# Altium footprint library RS485_PCB_Lib.PcbLib: 30 footprints (part 2 of 2)
Each footprint in its own frame and in the unit in brackets; x right, y up, seen from the top. Pads: shape width x height; smd on the part's side, far side on the other; paste and mask are expansions set on the pad; w line width, h text height; cw(c..) or ccw(c..) is an arc to the next point about the centre after c.
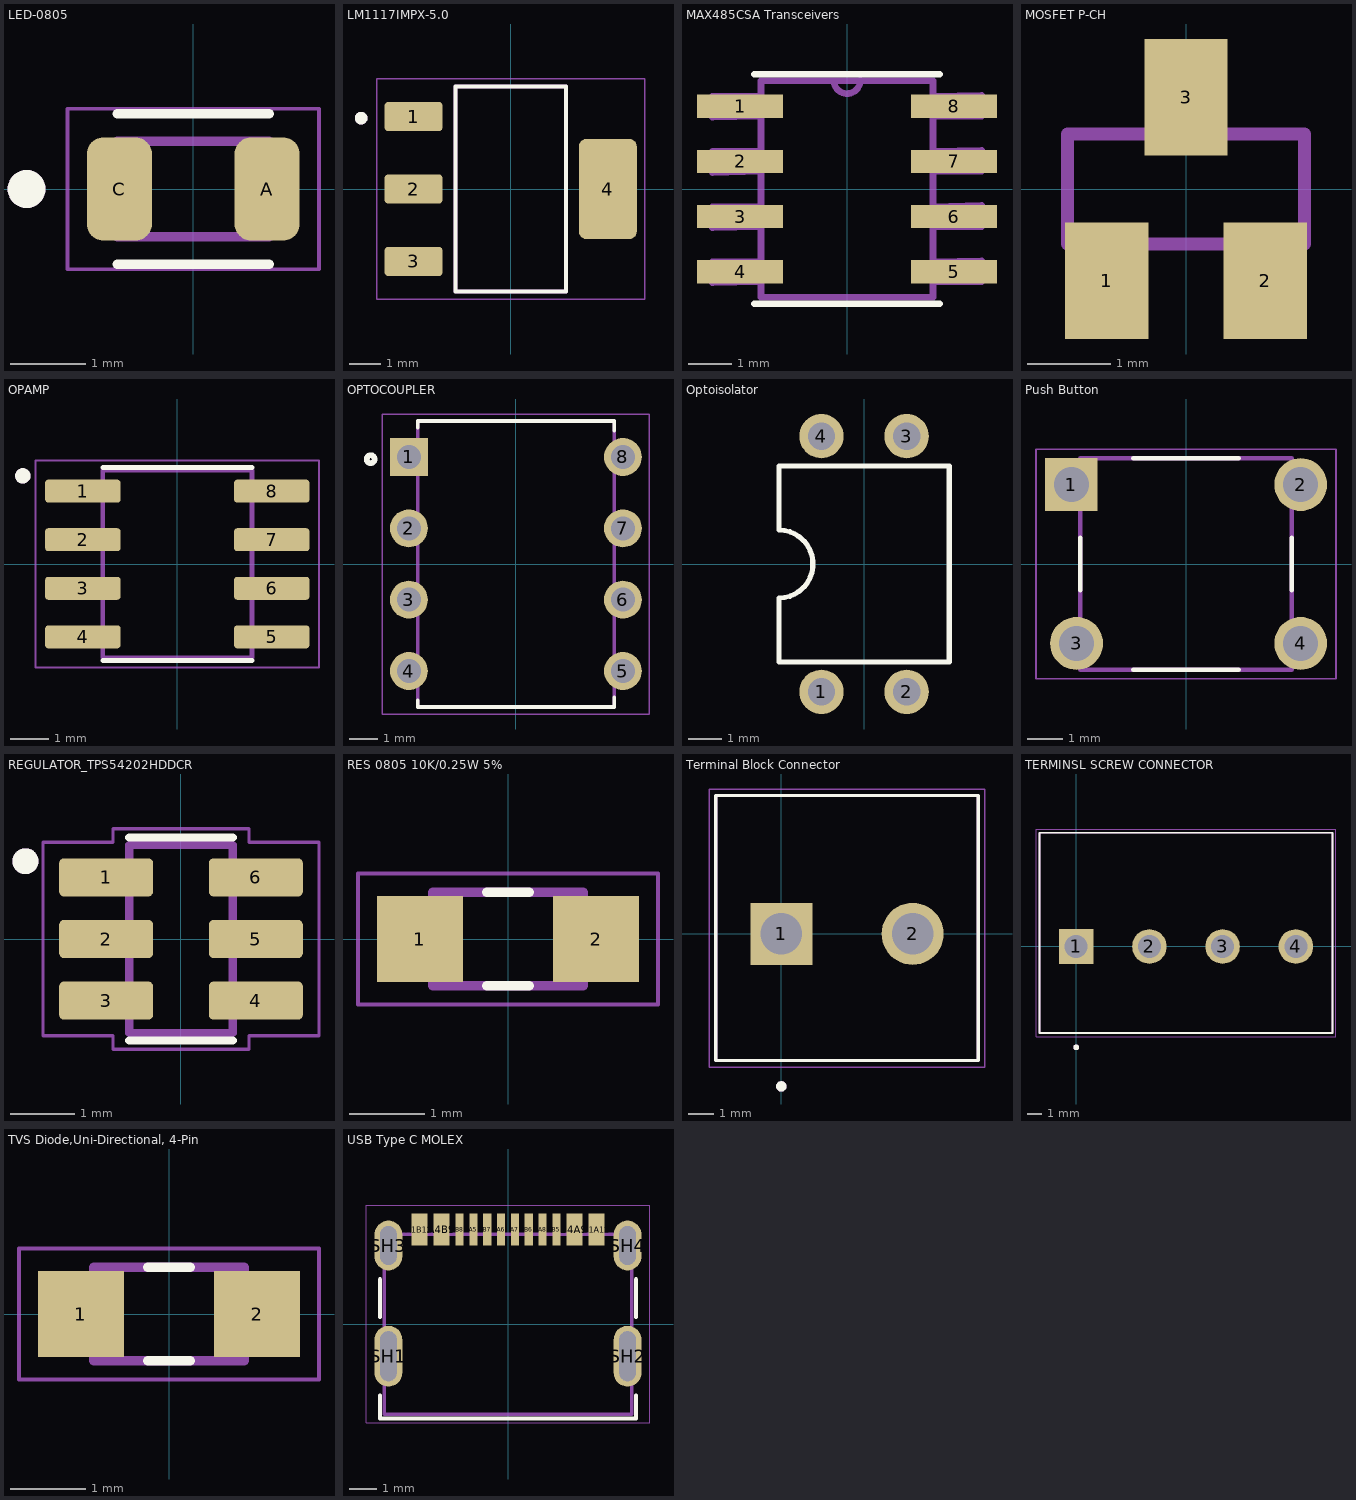
[diagram p1: the footprints below, top view; thin cyan lines are the x and y axes]

## LED-0805 [mm] "Red 640nm LED Indication - Discrete 1.85V 0805 (2012 Metric)"
pads (2):
  rrect50% 0.86x1.36 smd: A(0.975,0) C(-0.975,0)
Top Overlay:
  circle w0.3: c-2.2,0 r0.1
  lines w0.127: -1,-0.995 1,-0.995 ; -1,0.995 1,0.995
Mechanical 13:
  circle w0.3: c-2.2,0 r0.1
  lines w0.127: -1,-0.63 -1,0.63 1,0.63 1,-0.63 -1,-0.63
Mechanical 15:
  lines w0.05: -1.66,-1.059 -1.66,1.059 1.66,1.059 1.66,-1.059 -1.66,-1.059
3D body "step_temp.STEP": height 0.75, standoff 0, extent -1,-0.625 1,0.625

## LM1117IMPX-5.0 [mm]
height 1.8
pads (4):
  rrect25% 1.84x0.93 smd: 1(-3.085,2.3) 2(-3.085,0) 3(-3.085,-2.3)
  rrect25% 1.84x3.19 smd: 4(3.085,0)
Top Overlay:
  circle w0.2: c-4.75,2.25 r0.1
  lines w0.127: -1.75,-3.25 -1.75,3.25 1.75,3.25 1.75,-3.25 -1.75,-3.25
Mechanical 13:
  circle w0.2: c-4.75,2.25 r0.1
  lines w0.127: -1.75,-3.25 -1.75,3.25 1.75,3.25 1.75,-3.25 -1.75,-3.25
Mechanical 15:
  lines w0.05: -4.255,-3.5 4.255,-3.5 4.255,3.5 -4.255,3.5 -4.255,-3.5
3D body "step_temp.STEP": height 1.8, standoff 0, extent -3.499,-3.25 3.499,3.25

## MAX485CSA Transceivers [mil] "MAX485CSA-RS-485/RS-422 Transceivers, SOIC-8"
pads (8):
  rect 78x21 smd: 1(-97,75) 2(-97,25) 3(-97,-25) 4(-97,-75) 5(97,-75) 6(97,-25) 7(97,25) 8(97,75)
Top Overlay:
  lines w6: -84,-104 84,-104 ; -84,104 84,104
Mechanical 13:
  lines w6: -12,98.08 ccw(c0,98.5) 12,98.92 ; -122,-85 -78,-84 -78,-66 -122,-66 -122,-85 ; -122,-35 -78,-34 -78,-16 -122,-16 -122,-35 ; -122,15 -78,16 -78,34 -122,34 -122,15 ; -122,65 -78,66 -78,84 -122,84 -122,65 ; -78,-98 -78,98 -12,98 78,98 78,-98 -78,-98 ; 78,-84 122,-84 122,-65 78,-66 78,-84 ; 78,-34 122,-34 122,-15 78,-16 78,-34 ; 78,16 122,16 122,35 78,34 78,16 ; 78,66 122,66 122,85 78,84 78,66
3D body "step_temp.STEP": height 68.9, standoff 0, extent -118.11,-96.46 118.11,96.46

## MOSFET P-CH [mm] "MOSFET P-CH 20V 2.2A SOT23-3"
pads (3):
  rect 1x1.4 smd: 1(-0.95,-1.1) 2(0.95,-1.1) 3(0,1.1)
Mechanical 13:
  region: -0.711,-1.295 -1.168,-1.295 -1.168,-0.711 -0.711,-0.711
  region: 1.168,-1.295 0.711,-1.295 0.711,-0.711 1.168,-0.711
  region: 0.229,0.711 -0.229,0.711 -0.229,1.295 0.229,1.295
  lines w0.152: -1.422,-0.66 -1.422,0.66 1.422,0.66 1.422,-0.66 -1.422,-0.66
3D body "step_temp.STEP": height 1.25, standoff 0, extent -1.46,-1.312 1.46,1.058

## OPAMP [mm] "LMV342MA,Dual, 5.5-V, 1-MHz, high output current (75-mA) op amp,SOIC-8"
pads (8):
  rrect25% 1.97x0.6 smd: 1(-2.47,1.905) 2(-2.47,0.635) 3(-2.47,-0.635) 4(-2.47,-1.905) 5(2.47,-1.905) 6(2.47,-0.635) 7(2.47,0.635) 8(2.47,1.905)
Top Overlay:
  circle w0.2: c-4.04,2.305 r0.1
  lines w0.127: -1.95,-2.525 1.95,-2.525 ; -1.95,2.525 1.95,2.525
Mechanical 13:
  circle w0.2: c-4.04,2.305 r0.1
  lines w0.127: -1.95,-2.452 -1.95,2.452 1.95,2.452 1.95,-2.452 -1.95,-2.452
Mechanical 15:
  lines w0.05: -3.705,-2.702 -3.705,2.702 3.705,2.702 3.705,-2.702 -3.705,-2.702
3D body "step_temp.STEP": height 1.75, standoff 0, extent -3,-2.45 3,2.45

## OPTOCOUPLER [mm] "TLP521-2,Optoisolateur Ã  sortie transistor 5300 Vrms 2 canaux 8 DIP"
pads (8):
  rect 1.35x1.35 / inner round 1.35 / far side rect 1.35x1.35 hole 0.85: 1(-3.81,3.81)
  round 1.35 hole 0.85: 2(-3.81,1.27) 3(-3.81,-1.27) 4(-3.81,-3.81) 5(3.81,-3.81) 6(3.81,-1.27) 7(3.81,1.27) 8(3.81,3.81)
Top Overlay:
  circle w0.2: c-5.17,3.73 r0.141
  lines w0.127: -3.5,-4.85 -3.5,-5.09 3.5,-5.09 3.5,-4.75 ; -3.5,4.85 -3.5,5.09 3.5,5.09 3.5,4.75
Mechanical 13:
  lines w0.127: -3.5,-5.09 3.5,-5.09 3.5,5.09 -3.5,5.09 -3.5,-5.09
Mechanical 15:
  lines w0.05: -4.75,-5.34 4.75,-5.34 4.75,5.34 -4.75,5.34 -4.75,-5.34
3D body "step_temp.STEP": height 4.85, standoff -2.51, extent -3.935,-4.83 3.935,4.83

## Optoisolator [mil] "TLP521-1,Optoisolator Transistor Output 5300Vrms 1 Channel 4-DIP"
pads (4):
  round 52 hole 32: 1(-50,-150) 2(50,-150) 3(50,150) 4(-50,150)
Top Overlay:
  lines w6: -100,-115 -100,-40 ccw(c-100,0) -100,40 -100,115 100,115 100,-115 -100,-115
3D body "step_temp.STEP": height 196.85, standoff -129.92, extent -90.55,-160.12 90.55,150.12

## Push Button [mm] "Switch Push Button OFF (ON) SPST Round Button 0.05A 24VDC Momentary Contact PC Pins Thru-Hole"
pads (4):
  rect 1.498x1.498 / inner round 1.498 / far side rect 1.498x1.498 hole 0.99: 1(-3.25,2.25)
  round 1.498 hole 0.99: 2(3.25,2.25) 3(-3.1,-2.25) 4(3.25,-2.25)
Top Overlay:
  lines w0.127: -3,-0.75 -3,0.75 ; -1.5,-3 1.5,-3 ; -1.5,3 1.5,3 ; 3,-0.75 3,0.75
Mechanical 13:
  lines w0.127: -3,-3 3,-3 3,3 -3,3 -3,-3
Mechanical 15:
  lines w0.05: -4.25,-3.25 -4.25,3.25 4.25,3.25 4.25,-3.25 -4.25,-3.25
3D body "step_temp.STEP": height 17.01, standoff -3.51, extent -3.898,-2.995 3.9,2.995

## REGULATOR_TPS54202HDDCR [mm] "TPS54202HDDCR,4.5V to 28V Input, 2A Output, Synchronous Step-Down Voltage Converter,SOT-23-THN-6"
pads (6):
  rrect25% 1.45x0.59 smd: 1(-1.155,0.95) 2(-1.155,0) 3(-1.155,-0.95) 4(1.155,-0.95) 5(1.155,0) 6(1.155,0.95)
Top Overlay:
  circle w0.2: c-2.4,1.2 r0.1
  lines w0.127: -0.8,-1.565 0.8,-1.565 ; -0.8,1.565 0.8,1.565
Mechanical 13:
  circle w0.2: c-2.4,1.2 r0.1
  lines w0.127: -0.8,-1.45 0.8,-1.45 0.8,1.45 -0.8,1.45 -0.8,-1.45
Mechanical 15:
  lines w0.05: -2.13,-1.495 -1.05,-1.495 -1.05,-1.7 1.05,-1.7 1.05,-1.495 2.13,-1.495 2.13,1.495 1.05,1.495 1.05,1.7 -1.05,1.7 -1.05,1.495 -2.13,1.495 -2.13,-1.495
3D body "step_temp.STEP": height 1.1, standoff 0, extent -1.4,-1.45 1.4,1.45

## RES 0805 10K/0.25W 5% [mm] "FRESISTOR, THICK FILM, 10K, 5%, 0805, FULL REEL Product Range:PANASONIC - ERJ Series"
height 0.55
pads (2):
  rect 1.15x1.15 smd: 1(-1.175,0) 2(1.175,0)
Top Overlay:
  lines w0.127: -0.28,-0.625 0.28,-0.625 ; -0.28,0.625 0.28,0.625
Mechanical 13:
  lines w0.127: -1,-0.625 -1,0.625 1,0.625 1,-0.625 -1,-0.625
Mechanical 15:
  lines w0.05: -2,-0.875 -2,0.875 2,0.875 2,-0.875 -2,-0.875
3D body "step_temp.STEP": height 0.7, standoff 0, extent -1,-0.625 1,0.625

## Terminal Block Connector [mm] "MOLEX,Screw Type, Horizontal, 5.08 Pitch, 24~12 (AWG), Terminal Block Connector"
pads (2):
  rect 2.4x2.4 / inner round 2.4 / far side rect 2.4x2.4 hole 1.6: 1(0,0)
  round 2.4 hole 1.6: 2(5.08,0)
Top Overlay:
  circle w0.2: c0,-5.9 r0.1
  lines w0.127: -2.54,-4.9 -2.54,5.35 7.62,5.35 7.62,-4.9 -2.54,-4.9
Mechanical 13:
  circle w0.2: c0,-5.9 r0.1
  lines w0.127: -2.54,-4.9 -2.54,5.35 7.62,5.35 7.62,-4.9 -2.54,-4.9
Mechanical 15:
  lines w0.05: -2.79,-5.15 7.87,-5.15 7.87,5.6 -2.79,5.6 -2.79,-5.15
3D body "step_temp.STEP": height 14, standoff -3.7, extent -2.586,-5.461 8.174,4.789

## TERMINSL SCREW CONNECTOR [mm] "TERMINSL SCREW, 4PIN, 5.08MM"
pads (4):
  rect 2.4x2.4 / inner round 2.4 / far side rect 2.4x2.4 hole 1.6: 1(0,0)
  round 2.4 hole 1.6: 2(5.08,0) 3(10.16,0) 4(15.24,0)
Top Overlay:
  circle w0.2: c0,-7 r0.1
  lines w0.127: -2.54,-6 17.78,-6 17.78,7.89 -2.54,7.89 -2.54,-6
Mechanical 13:
  circle w0.2: c0,-7 r0.1
  lines w0.127: -2.54,-6 17.78,-6 17.78,7.89 -2.54,7.89 -2.54,-6
Mechanical 15:
  lines w0.05: -2.79,-6.25 -2.79,8.14 18.03,8.14 18.03,-6.25 -2.79,-6.25
3D body "step_temp.STEP": height 15.82, standoff -3.5, extent -2.79,-6.096 18.03,7.793

## TVS Diode,Uni-Directional, 4-Pin [mm] "TVS Diode,Uni-Directional,5V, 0805"
pads (2):
  rect 1.15x1.15 smd: 1(-1.175,0) 2(1.175,0)
Top Overlay:
  lines w0.127: -0.28,-0.625 0.28,-0.625 ; -0.28,0.625 0.28,0.625
Mechanical 13:
  lines w0.127: -1,-0.625 -1,0.625 1,0.625 1,-0.625 -1,-0.625
Mechanical 15:
  lines w0.05: -2,-0.875 -2,0.875 2,0.875 2,-0.875 -2,-0.875
3D body "step_temp.STEP": height 0.7, standoff 0, extent -1,-0.625 1,0.625

## USB Type C MOLEX [mm] "USB Type C MOLEX_2171790001"
height 3.16
pads (16):
  rect 0.59x1.15 smd mask+0.064: A1B12(-3.2,3.425) A4B9(-2.4,3.425) B1A12(3.2,3.425) B4A9(2.4,3.425)
  rect 0.298x1.15 smd mask+0.064: A5(-1.25,3.425) A6(-0.25,3.425) A7(0.25,3.425) A8(1.25,3.425) B5(1.75,3.425) B6(0.75,3.425) B7(-0.75,3.425) B8(-1.75,3.425)
  oval 1x2.2 hole 0.6 slot 1.8 at 90 deg mask+0.064: SH1(-4.32,-1.15) SH2(4.32,-1.15)
  oval 1x1.8 hole 0.6 slot 1.4 at 90 deg mask+0.064: SH3(-4.32,2.85) SH4(4.32,2.85)
Top Overlay:
  lines w0.15: -4.62,-2.57 -4.62,-3.4 4.62,-3.4 4.62,-2.57 ; -4.62,0.27 -4.62,1.63 ; 4.62,0.27 4.62,1.63
Mechanical 13:
  lines w0.13: -4.47,-3.25 -4.47,3.25 4.47,3.25 4.47,-3.25 -4.47,-3.25
Mechanical 15:
  lines w0.01: -5.12,-3.55 5.12,-3.55 5.12,4.3 -5.12,4.3 -5.12,-3.55